# Altium schematic symbol library EG20_QFN88.SchLib: 1 symbol
Pins are listed as number, name and electrical type; pins without a type are passive.

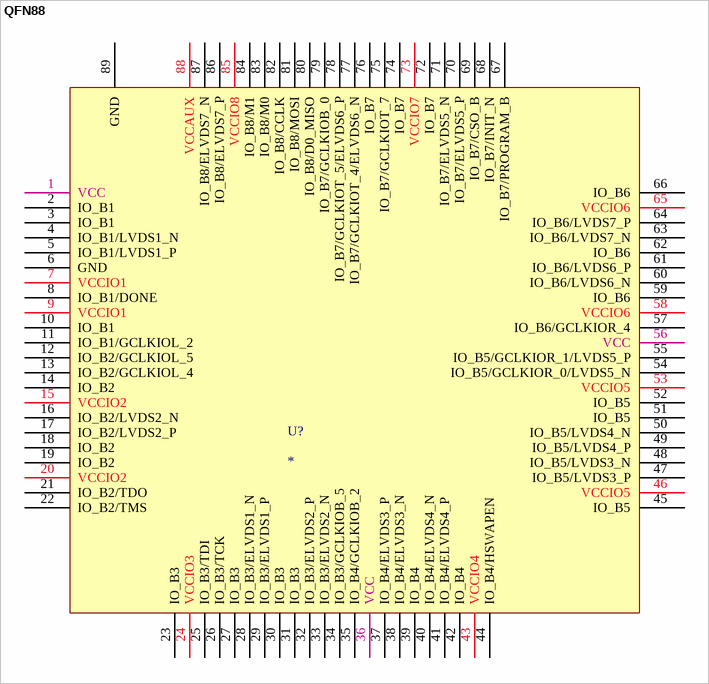
[diagram p0: symbol QFN88]

## QFN88
designator U?
pins: 1 VCC, 2 IO_B1, 3 IO_B1, 4 IO_B1/LVDS1_N, 5 IO_B1/LVDS1_P, 6 GND, 7 VCCIO1, 8 IO_B1/DONE, 9 VCCIO1, 10 IO_B1, 11 IO_B1/GCLKIOL_2, 12 IO_B2/GCLKIOL_5, 13 IO_B2/GCLKIOL_4, 14 IO_B2, 15 VCCIO2, 16 IO_B2/LVDS2_N, 17 IO_B2/LVDS2_P, 18 IO_B2, 19 IO_B2, 20 VCCIO2, 21 IO_B2/TDO, 22 IO_B2/TMS, 23 IO_B3, 24 VCCIO3, 25 IO_B3/TDI, 26 IO_B3/TCK, 27 IO_B3, 28 IO_B3/ELVDS1_N, 29 IO_B3/ELVDS1_P, 30 IO_B3, 31 IO_B3, 32 IO_B3/ELVDS2_P, 33 IO_B3/ELVDS2_N, 34 IO_B3/GCLKIOB_5, 35 IO_B4/GCLKIOB_2, 36 VCC, 37 IO_B4/ELVDS3_P, 38 IO_B4/ELVDS3_N, 39 IO_B4, 40 IO_B4/ELVDS4_N, 41 IO_B4/ELVDS4_P, 42 IO_B4, 43 VCCIO4, 44 IO_B4/HSWAPEN, 45 IO_B5, 46 VCCIO5, 47 IO_B5/LVDS3_P, 48 IO_B5/LVDS3_N, 49 IO_B5/LVDS4_P, 50 IO_B5/LVDS4_N, 51 IO_B5, 52 IO_B5, 53 VCCIO5, 54 IO_B5/GCLKIOR_0/LVDS5_N, 55 IO_B5/GCLKIOR_1/LVDS5_P, 56 VCC, 57 IO_B6/GCLKIOR_4, 58 VCCIO6, 59 IO_B6, 60 IO_B6/LVDS6_N, 61 IO_B6/LVDS6_P, 62 IO_B6, 63 IO_B6/LVDS7_N, 64 IO_B6/LVDS7_P, 65 VCCIO6, 66 IO_B6, 67 IO_B7/PROGRAM_B, 68 IO_B7/INIT_N, 69 IO_B7/CSO_B, 70 IO_B7/ELVDS5_P, 71 IO_B7/ELVDS5_N, 72 IO_B7, 73 VCCIO7, 74 IO_B7, 75 IO_B7/GCLKIOT_7, 76 IO_B7, 77 IO_B7/GCLKIOT_4/ELVDS6_N, 78 IO_B7/GCLKIOT_5/ELVDS6_P, 79 IO_B7/GCLKIOB_0, 80 IO_B8/D0_MISO, 81 IO_B8/MOSI, 82 IO_B8/CCLK, 83 IO_B8/M0, 84 IO_B8/M1, 85 VCCIO8, 86 IO_B8/ELVDS7_P, 87 IO_B8/ELVDS7_N, 88 VCCAUX, 89 GND